# Altium schematic symbol library Switch,Tactile,SPST-NO,Thru,12x12,H7,5.Schlib: 1 symbol
Pins are listed as number, name and electrical type; pins without a type are passive.

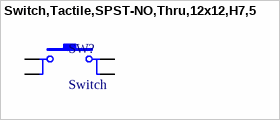
[diagram p0: symbol Switch,Tactile,SPST-NO,Thru,12x12,H7,5]

## Switch,Tactile,SPST-NO,Thru,12x12,H7,5
designator SW?, comment Switch
Tactile Switch SPST-NO Top Actuated Through Hole
pins: 1, 2, 3, 4